# Altium footprint library 615008138021.PcbLib: 1 footprints
Each footprint in its own frame and in the unit in brackets; x right, y up, seen from the top. Pads: shape width x height; smd on the part's side, far side on the other; paste and mask are expansions set on the pad; w line width, h text height; cw(c..) or ccw(c..) is an arc to the next point about the centre after c.
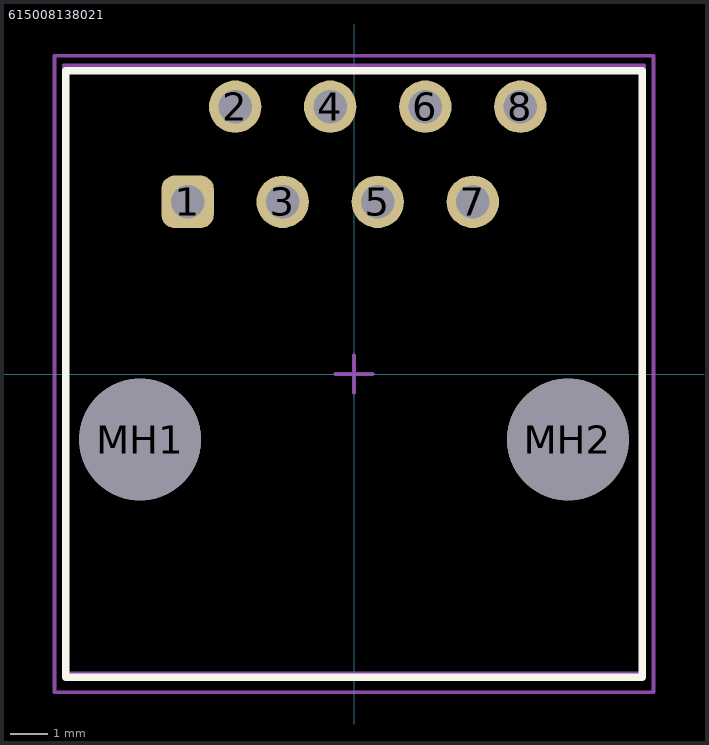
[diagram p0: the footprint, top view; thin cyan lines are the x and y axes]

## 615008138021 [mm]
pads (10):
  rrect50% 1.4x1.4 hole 0.9: 1(-4.445,4.6)
  round 1.4 hole 0.9: 2(-3.175,7.14) 3(-1.905,4.6) 4(-0.635,7.14) 5(0.635,4.6) 6(1.905,7.14) 7(3.175,4.6) 8(4.445,7.14)
  round 3.25 hole 3.25 unplated: MH1(-5.715,-1.75) MH2(5.715,-1.75)
Top Overlay:
  lines w0.2: -7.7,-8.1 7.7,-8.1 7.7,8.1 -7.7,8.1 -7.7,-8.1
Top Assembly:
  lines w0.1: -7.75,-8 -7.75,8.25 7.75,8.25 7.75,-8 -7.75,-8
Top Courtyard:
  lines w0.1: -0.5,0 0.5,0 ; 0,-0.5 0,0.5 ; -8,-8.5 -8,8.5 8,8.5 8,-8.5 -8,-8.5
3D body "615008138021 (rev1).stp": height 16.5, standoff -3.4, extent -7.7,-8.1 7.7,8.1